# EAGLE library part 615008145521 (library WR-MJ)
WR-MJ Gigabit Ethernet Modular Jacks – THT Characteristics Shieldingless and Shielded with EMI-Spring option Vertical and Horizontal orientations Tray Packaging Properties PoE++ Compatible up to 100W (IEEE 802.3bt) UL and cULus-Certified UL94-V0 reflow-compatible insulator material Ethernet Category 5e to 6A Applications Telecommunications Computing Video Internet of Things Smart Buildings <https://www.we-online.com/components/media/o161613v209%20Family_WR-MJTH_615008160021.jpg> Details see: www.we-online.com/en/components/products/WR_MJ_MODULAR_JACKS_OVER <www.we-online.com/catalog/WR_MJ_MODULAR_JACKS_OVER/?utm_source=eagle_model&utm_medium=description_link&utm_campaign=eisos_eagle> Updated by Yingchun Shan 2020-01-03 2020(C) Würth Elektronik
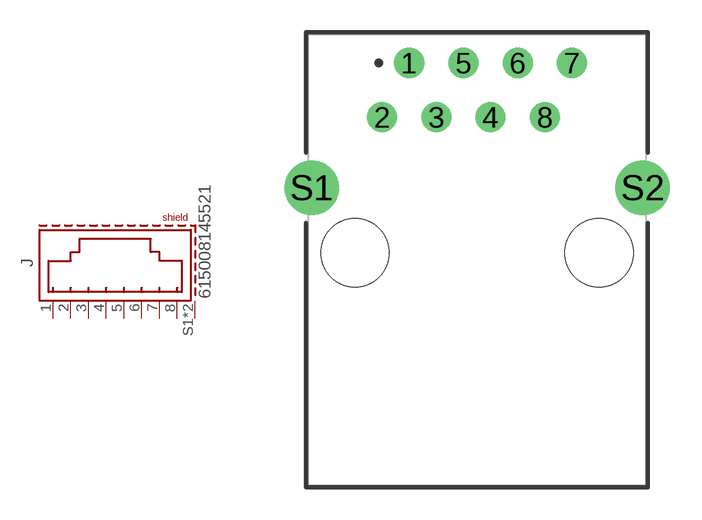
[diagram p55: symbol with the pads of 615008145521; footprint 615008145521]

Designator prefix J

## 615008145521 (APPLICATION-SYSTEM: CAT 5e; DATASHEET-URL: https://www.we-online.com/redexpert/spec/615008145521?ae; EMI: Yes; LED: /; MOUNT: THT; PART-NUMBER: 615008145521; SIZE: Horizontal; TAB: Down; VALUE: 615008145521; XPXC: 8P8C)  [615008145521]
1  8  pas
2  7  pas
3  6  pas
4  5  pas
5  4  pas
6  3  pas
7  2  pas
8  1  pas
S1  SHIELD  pas
S2  SHIELD  pas

## Footprint 615008145521 (pad centres in mm)
WR-MJ Modular Jack Horizontal Shielded w. EMI Panel Finger 8P8C CAT 5e Tab Down ,8 Pins
drill 0.9: 1 -3.175,9.22; 2 -4.445,6.68; 3 -1.905,6.68; 4 0.635,6.68; 5 -0.635,9.22; 6 1.905,9.22; 7 4.445,9.22; 8 3.175,6.68
drill 1.7: S1 -7.75,3.38; S2 7.75,3.38
hole 3.2 at -5.715,0.33
hole 3.2 at 5.715,0.33